# Altium footprint library PCB - LEADED - 2EDF7275KXUMA1.PcbLib: 1 footprints
Each footprint in its own frame and in the unit in brackets; x right, y up, seen from the top. Pads: shape width x height; smd on the part's side, far side on the other; paste and mask are expansions set on the pad; w line width, h text height; cw(c..) or ccw(c..) is an arc to the next point about the centre after c.
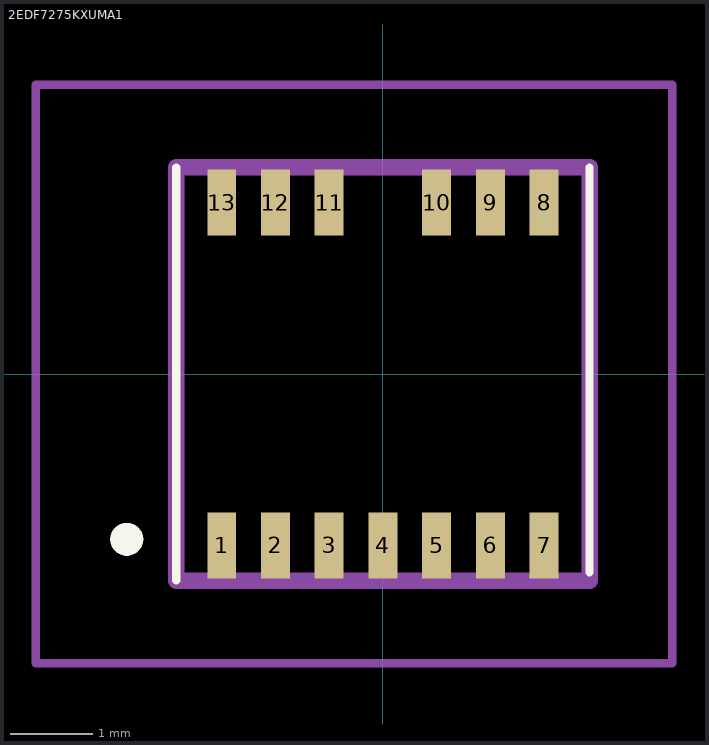
[diagram p0: the footprint, top view; thin cyan lines are the x and y axes]

## 2EDF7275KXUMA1 [mm]
pads (13):
  rect 0.35x0.8 smd: 1(-1.95,-2.075) 2(-1.3,-2.075) 3(-0.65,-2.075) 4(0,-2.075) 5(0.65,-2.075) 6(1.3,-2.075) 7(1.95,-2.075) 8(1.95,2.075) 9(1.3,2.075) 10(0.65,2.075) 11(-0.65,2.075) 12(-1.3,2.075) 13(-1.95,2.075)
Top Overlay:
  lines w0.1: -2.5,-2.5 -2.5,2.5 ; 2.5,-2.4 2.5,2.5
  lines w0.2: -3.2,-2 cw(c-3.1,-2) -3,-2 cw(c-3.1,-2) -3.2,-2
Top Assembly:
  lines w0.2: -2.5,-2.5 -2.5,2.5 2.5,2.5 2.5,-2.5 -2.5,-2.5
Top Courtyard:
  lines w0.1: -4.2,-3.5 3.5,-3.5 3.5,3.5 -4.2,3.5 -4.2,-3.5
Top Designator:
  text ".Designator" at -4.191,3.683 h0.76
3D body "2EDF7275KXUMA1.stp": height 1.16, standoff 0, extent -2.5,-2.5 2.5,2.5